# EAGLE library part ATMEL_MEGA16-P (library AdapterDIP8M16)
MICROCONTROLLER 16 Kbytes FLASH 1 kbytes SRAM 512 bytes EEPROM USART 8-channel 10 bit ADC Source: avr.lbr
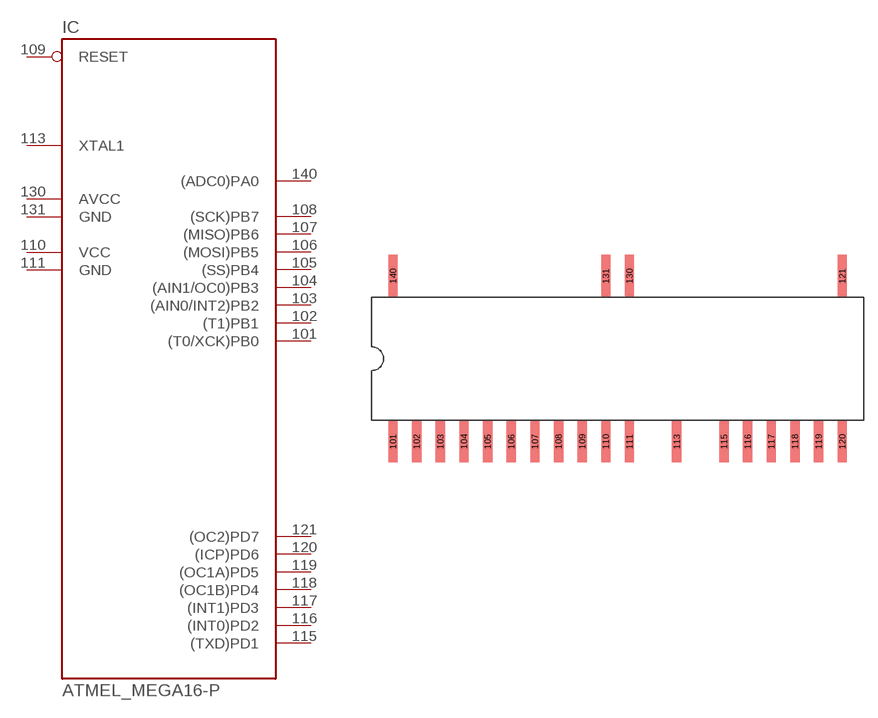
[diagram p3: symbol with the pads of ATMEL_DIL40; footprint ATMEL_DIL40]

Designator prefix IC

## ATMEL_MEGA16-P  [ATMEL_DIL40]
101  (T0/XCK)PB0
102  (T1)PB1
103  (AIN0/INT2)PB2
104  (AIN1/OC0)PB3
105  (SS)PB4
106  (MOSI)PB5
107  (MISO)PB6
108  (SCK)PB7
109  RESET  in
110  VCC  pwr
111  GND  pwr
113  XTAL1
115  (TXD)PD1
116  (INT0)PD2
117  (INT1)PD3
118  (OC1B)PD4
119  (OC1A)PD5
120  (ICP)PD6
121  (OC2)PD7
130  AVCC  pwr
131  GND  pwr
140  (ADC0)PA0

## Footprint ATMEL_DIL40 (pad centres in mm)
Dual In Line
smd 1 x 4.5: 101 -24.13,-8.89; 102 -21.59,-8.89; 103 -19.05,-8.89; 104 -16.51,-8.89; 105 -13.97,-8.89; 106 -11.43,-8.89; 107 -8.89,-8.89; 108 -6.35,-8.89; 109 -3.81,-8.89; 110 -1.27,-8.89; 111 1.27,-8.89; 113 6.35,-8.89; 115 11.43,-8.89; 116 13.97,-8.89; 117 16.51,-8.89; 118 19.05,-8.89; 119 21.59,-8.89; 120 24.13,-8.89; 121 24.13,8.89; 130 1.27,8.89; 131 -1.27,8.89; 140 -24.13,8.89